# Altium integrated library Microchip Linear.IntLib: 855 symbols (part 25 of 25)
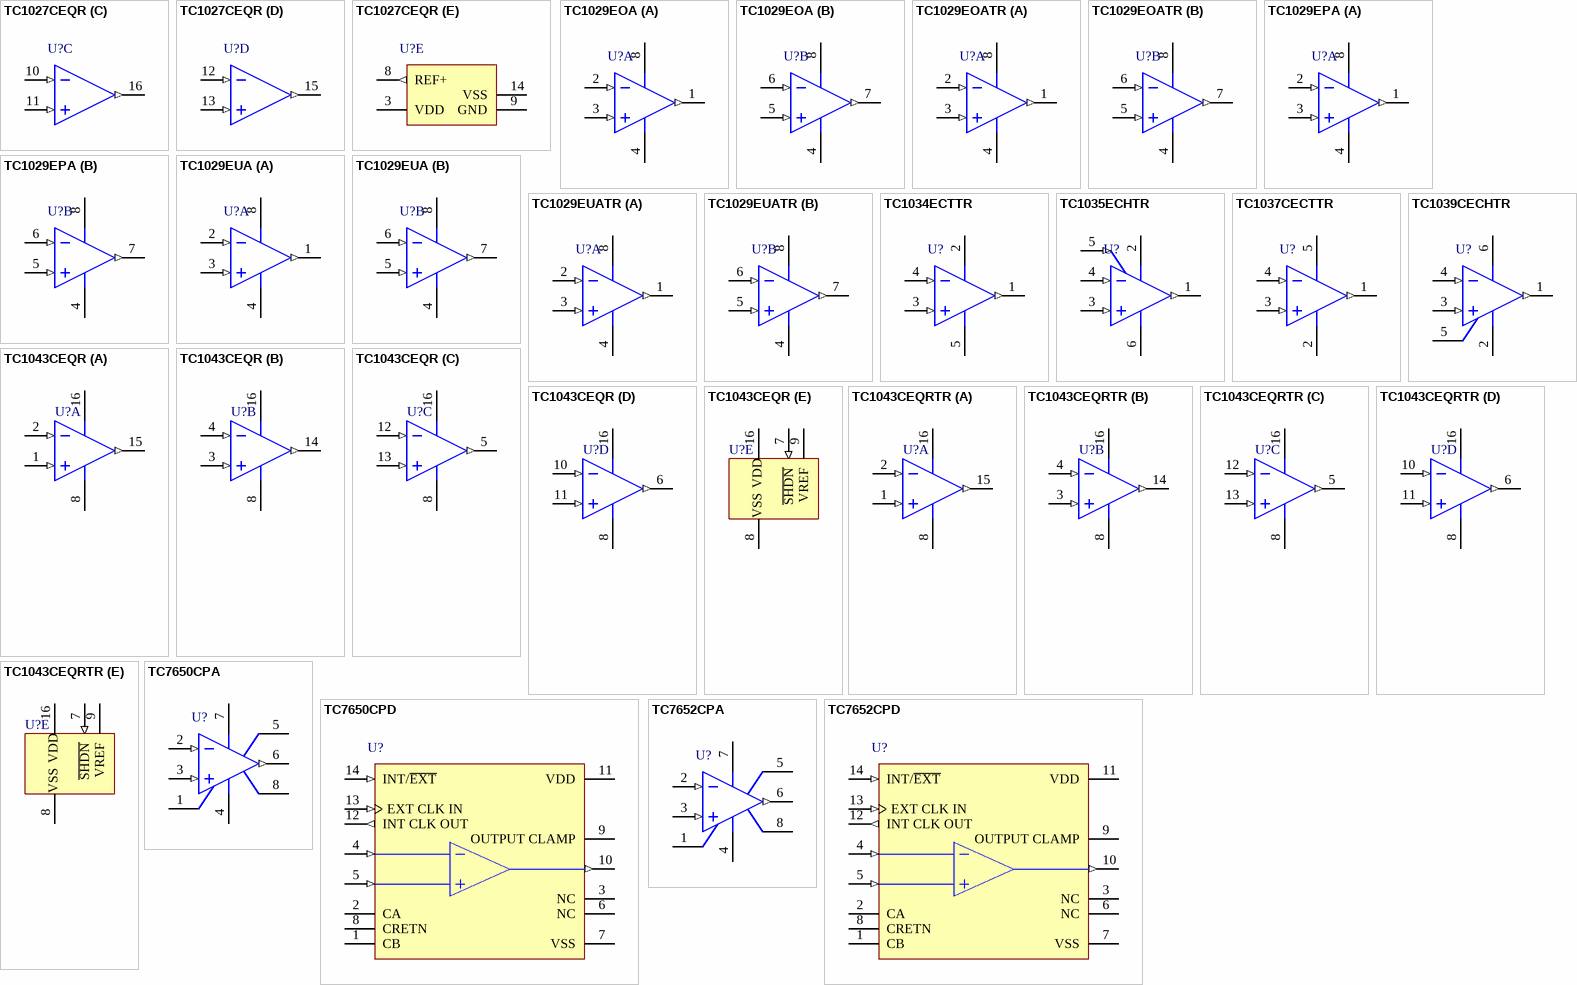
[diagram p64: symbols TC1027CEQR to TC7652CPD]

## TC1043CEQRTR
designator U?
Low Power Voltage Reference with Dual Operational Amplifier, Dual Comparator and Shutdown Mode, 16-Pin QSOP, Industrial Temperature, Tape and Reel; Manufacturer: Microchip; PartNumber: TC1043CEQRTR; DatasheetVersion: revB, Jan-2003; PackageVersion: revBB, Aug-2009; PackageReference: QSOP-QR16; PackageDescription: 16-Lead Plastic Shrink Small Outline Narrow Body (QR) - .150" Body [QSOP]; Supplier 1: Mouser; Supplier Part Number 1: 579-TC1043CEQRTR; Mounting Technology: Surface Mount; Code_JEDEC: MO-137-AB; Code_IPC: SOP635P600-16; ComponentLink1Description: Manufacturer URL; ComponentLink1URL: http://www.microchip.com/; ComponentLink2Description: Datasheet; ComponentLink2URL: http://ww1.microchip.com/downloads/en/DeviceDoc/21347b.pdf; ComponentLink3Description: Package Specification; ComponentLink3URL: http://www.microchip.com/stellent/groups/techpub_sg/documents/packagingspec/en012702.pdf
footprint QSOP-QR16_N (SOP, 16-Leads, Body 4.9x3.9mm, Pitch 0.635mm, IPC Medium Density)
footprint QSOP-QR16_L (SOP, 16-Leads, Body 4.9x3.9mm, Pitch 0.635mm, IPC High Density)
footprint QSOP-QR16_M (SOP, 16-Leads, Body 4.9x3.9mm, Pitch 0.635mm, IPC Low Density)
pins on every part: 8 VSS (power), 16 VDD (power)
part A pins: 1 A1IN+ (in), 2 A1IN- (in), 15 A1OUT (out)
part B pins: 3 A2IN+ (in), 4 A2IN- (in), 14 A2OUT (out)
part C pins: 5 C1OUT (out), 12 C1IN- (in), 13 C1IN+ (in)
part D pins: 6 C2OUT (out), 10 C2IN- (in), 11 C2IN+ (in)
part E pins: 7 ~{SHDN} (in), 9 VREF (power)

## TC7650CPA
designator U?
Chopper Stabilized Operational Amplifier, 8-Pin PDIP, Commercial Temperature; Manufacturer: Microchip; PartNumber: TC7650CPA; DatasheetVersion: revB, Jan-2003; PackageVersion: revBB, Aug-2009; PackageReference: PDIP300-PA8; PackageDescription: 8-Lead Plastic Dual In-Line (PA) - 300 mil Body [PDIP]; Supplier 1: Digi-Key; Supplier Part Number 1: TC7650CPA-ND; Supplier 2: Farnell; Supplier Part Number 2: 1852307; Supplier 3: Newark; Supplier Part Number 3: 69K7659; Supplier 4: Mouser; Supplier Part Number 4: 579-TC7650CPA; Mounting Technology: Through Hole; Code_JEDEC: MS-001-BA; ComponentLink1Description: Manufacturer URL; ComponentLink1URL: http://www.microchip.com/; ComponentLink2Description: Datasheet; ComponentLink2URL: http://ww1.microchip.com/downloads/en/DeviceDoc/21463b.pdf; ComponentLink3Description: Package Specification; ComponentLink3URL: http://www.microchip.com/stellent/groups/techpub_sg/documents/packagingspec/en012702.pdf
footprint PDIP300-PA8 (DIP, 8-Leads, Row Spacing 7.62mm, Pitch 2.54mm, Body 9.5x6.6mm)
pins: 1 CA, 2 -INPUT (in), 3 +INPUT (in), 4 VSS (power), 5 OUTPUT CLAMP, 6 OUTPUT (out), 7 VDD (power), 8 CB

## TC7650CPD
designator U?
Chopper Stabilized Operational Amplifier, 14-Pin PDIP, Commercial Temperature; Manufacturer: Microchip; PartNumber: TC7650CPD; DatasheetVersion: revB, Jan-2003; PackageVersion: revBB, Aug-2009; PackageReference: PDIP300-PD14; PackageDescription: 14-Lead Plastic Dual In-Line (PD) - 300 mil Body [PDIP]; Supplier 1: Digi-Key; Supplier Part Number 1: TC7650CPD-ND; Supplier 2: Farnell; Supplier Part Number 2: 1852308; Supplier 3: Newark; Supplier Part Number 3: 69K7660; Supplier 4: Mouser; Supplier Part Number 4: 579-TC7650CPD; Mounting Technology: Through Hole; Code_JEDEC: MS-001-AA; ComponentLink1Description: Manufacturer URL; ComponentLink1URL: http://www.microchip.com/; ComponentLink2Description: Datasheet; ComponentLink2URL: http://ww1.microchip.com/downloads/en/DeviceDoc/21463b.pdf; ComponentLink3Description: Package Specification; ComponentLink3URL: http://www.microchip.com/stellent/groups/techpub_sg/documents/packagingspec/en012702.pdf
footprint PDIP300-PD14 (DIP, 14-Leads, Row Spacing 7.62mm, Pitch 2.54mm, Body 19.2x6.6mm)
pins: 1 CB, 2 CA, 3 NC, 4 -INPUT (in), 5 +INPUT (in), 6 NC, 7 VSS (power), 8 CRETN, 9 OUTPUT CLAMP, 10 OUTPUT (out), 11 VDD (power), 12 INT CLK OUT (out), 13 EXT CLK IN (in), 14 INT/~{EXT} (in)

## TC7652CPA
designator U?
Low Noise, Chopper Stabilized Operational Amplifier, 8-Pin PDIP, Commercial Temperature; Manufacturer: Microchip; PartNumber: TC7652CPA; DatasheetVersion: revB, Jan-2003; PackageVersion: revBB, Aug-2009; PackageReference: PDIP300-PA8; PackageDescription: 8-Lead Plastic Dual In-Line (PA) - 300 mil Body [PDIP]; Supplier 1: Digi-Key; Supplier Part Number 1: TC7652CPA-ND; Supplier 2: Farnell; Supplier Part Number 2: 1852311; Supplier 3: Newark; Supplier Part Number 3: 92C6587; Supplier 4: Mouser; Supplier Part Number 4: 579-TC7652CPA; Mounting Technology: Through Hole; Code_JEDEC: MS-001-BA; ComponentLink1Description: Manufacturer URL; ComponentLink1URL: http://www.microchip.com/; ComponentLink2Description: Datasheet; ComponentLink2URL: http://ww1.microchip.com/downloads/en/DeviceDoc/21464b.pdf; ComponentLink3Description: Package Specification; ComponentLink3URL: http://www.microchip.com/stellent/groups/techpub_sg/documents/packagingspec/en012702.pdf
footprint PDIP300-PA8 (DIP, 8-Leads, Row Spacing 7.62mm, Pitch 2.54mm, Body 9.5x6.6mm)
pins: 1 CA, 2 -INPUT (in), 3 +INPUT (in), 4 VSS (power), 5 OUTPUT CLAMP, 6 OUTPUT (out), 7 VDD (power), 8 CB

## TC7652CPD
designator U?
Low Noise, Chopper Stabilized Operational Amplifier, 14-Pin PDIP, Commercial Temperature; Manufacturer: Microchip; PartNumber: TC7652CPD; DatasheetVersion: revB, Jan-2003; PackageVersion: revBB, Aug-2009; PackageReference: PDIP300-PD14; PackageDescription: 14-Lead Plastic Dual In-Line (PD) - 300 mil Body [PDIP]; Supplier 1: Digi-Key; Supplier Part Number 1: TC7652CPD-ND; Supplier 2: Farnell; Supplier Part Number 2: 1852312; Supplier 3: Newark; Supplier Part Number 3: 92C6588; Supplier 4: Mouser; Supplier Part Number 4: 579-TC7652CPD; Mounting Technology: Through Hole; Code_JEDEC: MS-001-AA; ComponentLink1Description: Manufacturer URL; ComponentLink1URL: http://www.microchip.com/; ComponentLink2Description: Datasheet; ComponentLink2URL: http://ww1.microchip.com/downloads/en/DeviceDoc/21464b.pdf; ComponentLink3Description: Package Specification; ComponentLink3URL: http://www.microchip.com/stellent/groups/techpub_sg/documents/packagingspec/en012702.pdf
footprint PDIP300-PD14 (DIP, 14-Leads, Row Spacing 7.62mm, Pitch 2.54mm, Body 19.2x6.6mm)
pins: 1 CB, 2 CA, 3 NC, 4 -INPUT (in), 5 +INPUT (in), 6 NC, 7 VSS (power), 8 CRETN, 9 OUTPUT CLAMP, 10 OUTPUT (out), 11 VDD (power), 12 INT CLK OUT (out), 13 EXT CLK IN (in), 14 INT/~{EXT} (in)